# Altium schematic symbol library ADV7511.SchLib: 1 symbol
Pins are listed as number, name and electrical type; pins without a type are passive.

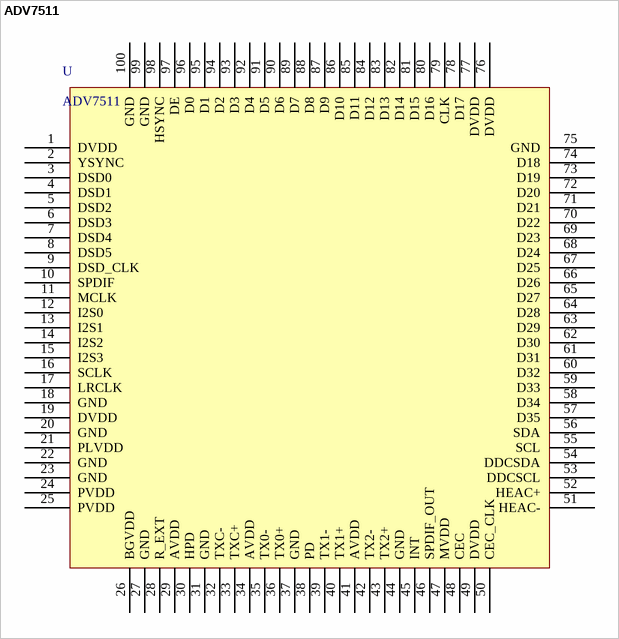
[diagram p0: symbol ADV7511]

## ADV7511
designator U
pins: 1 DVDD, 2 YSYNC, 3 DSD0, 4 DSD1, 5 DSD2, 6 DSD3, 7 DSD4, 8 DSD5, 9 DSD_CLK, 10 SPDIF, 11 MCLK, 12 I2S0, 13 I2S1, 14 I2S2, 15 I2S3, 16 SCLK, 17 LRCLK, 18 GND, 19 DVDD, 20 GND, 21 PLVDD, 22 GND, 23 GND, 24 PVDD, 25 PVDD, 26 BGVDD, 27 GND, 28 R_EXT, 29 AVDD, 30 HPD, 31 GND, 32 TXC-, 33 TXC+, 34 AVDD, 35 TX0-, 36 TX0+, 37 GND, 38 PD, 39 TX1-, 40 TX1+, 41 AVDD, 42 TX2-, 43 TX2+, 44 GND, 45 INT, 46 SPDIF_OUT, 47 MVDD, 48 CEC, 49 DVDD, 50 CEC_CLK, 51 HEAC-, 52 HEAC+, 53 DDCSCL, 54 DDCSDA, 55 SCL, 56 SDA, 57 D35, 58 D34, 59 D33, 60 D32, 61 D31, 62 D30, 63 D29, 64 D28, 65 D27, 66 D26, 67 D25, 68 D24, 69 D23, 70 D22, 71 D21, 72 D20, 73 D19, 74 D18, 75 GND, 76 DVDD, 77 DVDD, 78 D17, 79 CLK, 80 D16, 81 D15, 82 D14, 83 D13, 84 D12, 85 D11, 86 D10, 87 D9, 88 D8, 89 D7, 90 D6, 91 D5, 92 D4, 93 D3, 94 D2, 95 D1, 96 D0, 97 DE, 98 HSYNC, 99 GND, 100 GND